# EAGLE library part STM32L476RG (library Hughes-STM32)
STM - Microcontroller Manufacturer: STMicroelectronics Description: IC MCU 32BIT 512KB FLASH 64LQFP Manufacturer Part Number: STM32L476RET6 Digi-Key Part <https://www.digikey.com/product-detail/en/stmicroelectronics/STM32L476RET6/497-15872-ND/5344348>
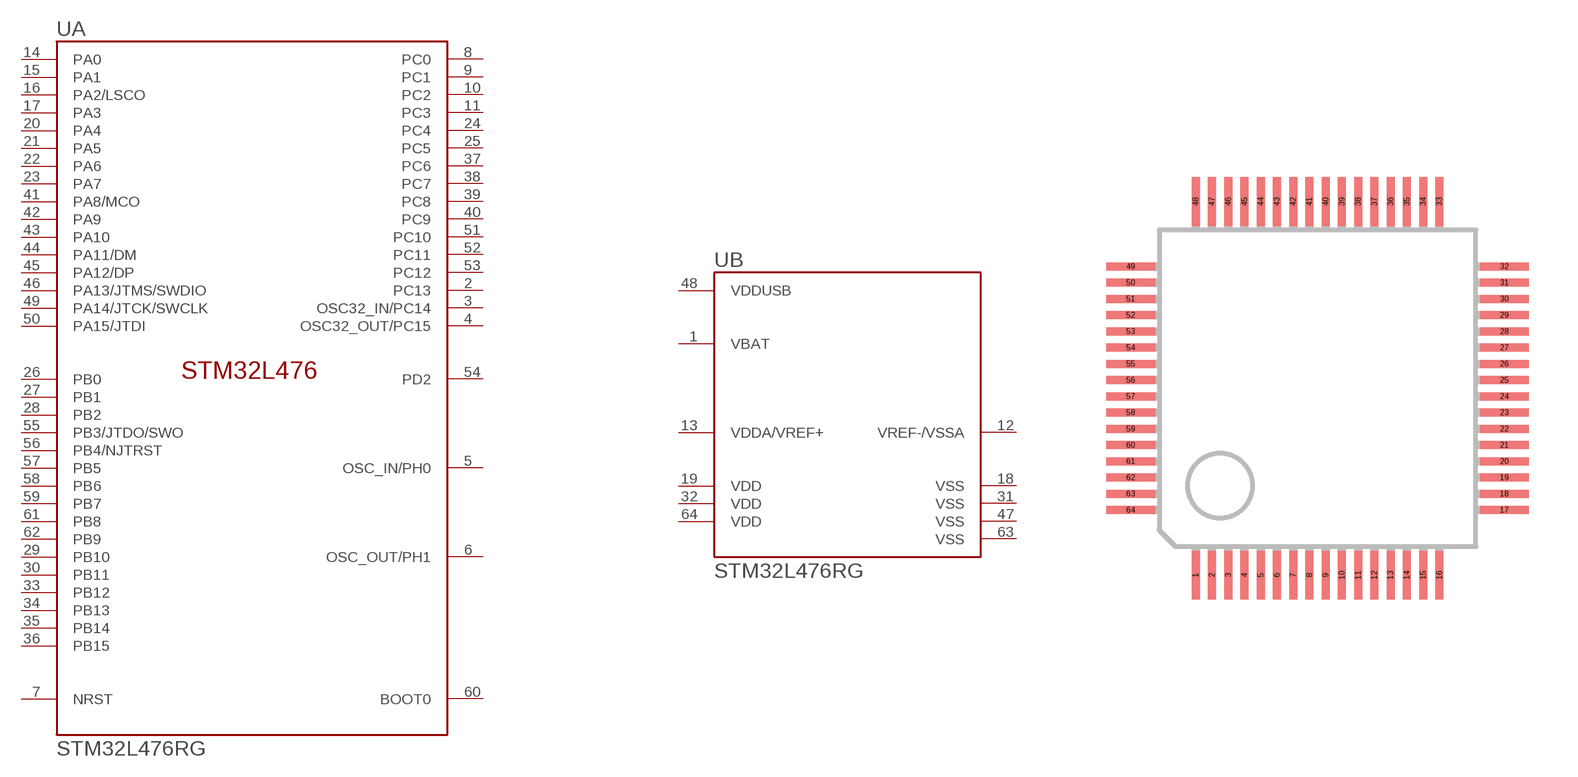
[diagram p1: symbol with the pads of TQFP64; footprint TQFP64]

Designator prefix U; gates A=STM32L476RG_GROUP B=STM32L476RG_POWER

## STM32L476RG (DIGIKEY#: 497-15872-ND; MANF: STMicroelectronics; MANF#: STM32L476RET6; VALUE: STM32L476RET6)  [TQFP64]
1  B:VBAT  pwr
2  A:PC13
3  A:OSC32_IN/PC14
4  A:OSC32_OUT/PC15
5  A:OSC_IN/PH0
6  A:OSC_OUT/PH1
7  A:NRST  pas
8  A:PC0
9  A:PC1
10  A:PC2
11  A:PC3
12  B:VREF-/VSSA  sup
13  B:VDDA/VREF+  pwr
14  A:PA0
15  A:PA1
16  A:PA2/LSCO
17  A:PA3
18  B:VSS  sup
19  B:VDD  pwr
20  A:PA4
21  A:PA5
22  A:PA6
23  A:PA7
24  A:PC4
25  A:PC5
26  A:PB0
27  A:PB1
28  A:PB2
29  A:PB10
30  A:PB11
31  B:VSS  sup
32  B:VDD  pwr
33  A:PB12
34  A:PB13
35  A:PB14
36  A:PB15
37  A:PC6
38  A:PC7
39  A:PC8
40  A:PC9
41  A:PA8/MCO
42  A:PA9
43  A:PA10
44  A:PA11/DM
45  A:PA12/DP
46  A:PA13/JTMS/SWDIO
47  B:VSS  sup
48  B:VDDUSB  pwr
49  A:PA14/JTCK/SWCLK
50  A:PA15/JTDI
51  A:PC10
52  A:PC11
53  A:PC12
54  A:PD2
55  A:PB3/JTDO/SWO
56  A:PB4/NJTRST
57  A:PB5
58  A:PB6
59  A:PB7
60  A:BOOT0  pas
61  A:PB8
62  A:PB9
63  B:VSS  sup
64  B:VDD  pwr

## Footprint TQFP64 (pad centres in mm)
Thin Quad Flat Pack
smd 0.25 x 1.5: 1 -3.75,-5.75; 2 -3.25,-5.75; 3 -2.75,-5.75; 4 -2.25,-5.75; 5 -1.75,-5.75; 6 -1.25,-5.75; 7 -0.75,-5.75; 8 -0.25,-5.75; 9 0.25,-5.75; 10 0.75,-5.75; 11 1.25,-5.75; 12 1.75,-5.75; 13 2.25,-5.75; 14 2.75,-5.75; 15 3.25,-5.75; 16 3.75,-5.75; 33 3.75,5.75; 34 3.25,5.75; 35 2.75,5.75; 36 2.25,5.75; 37 1.75,5.75; 38 1.25,5.75; 39 0.75,5.75; 40 0.25,5.75; 41 -0.25,5.75; 42 -0.75,5.75; 43 -1.25,5.75; 44 -1.75,5.75; 45 -2.25,5.75; 46 -2.75,5.75; 47 -3.25,5.75; 48 -3.75,5.75
smd 1.5 x 0.25: 17 5.75,-3.75; 18 5.75,-3.25; 19 5.75,-2.75; 20 5.75,-2.25; 21 5.75,-1.75; 22 5.75,-1.25; 23 5.75,-0.75; 24 5.75,-0.25; 25 5.75,0.25; 26 5.75,0.75; 27 5.75,1.25; 28 5.75,1.75; 29 5.75,2.25; 30 5.75,2.75; 31 5.75,3.25; 32 5.75,3.75; 49 -5.75,3.75; 50 -5.75,3.25; 51 -5.75,2.75; 52 -5.75,2.25; 53 -5.75,1.75; 54 -5.75,1.25; 55 -5.75,0.75; 56 -5.75,0.25; 57 -5.75,-0.25; 58 -5.75,-0.75; 59 -5.75,-1.25; 60 -5.75,-1.75; 61 -5.75,-2.25; 62 -5.75,-2.75; 63 -5.75,-3.25; 64 -5.75,-3.75